# Altium schematic symbol library CAPACITOR_ELEC_SMD.SchLib: 1 symbol
Pins are listed as number, name and electrical type; pins without a type are passive.

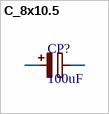
[diagram p0: symbol C_8x10.5]

## C_8x10.5
designator CP?, comment 100uF
8x10.5mm Polarized Capacitor.; JLC: Plugin; LCSC: Cxxxxxxxx
footprint CP_SMD_8x10.5 (Capacitor.)
footprint CP_SMD_10x10.5 (Capacitor.)
footprint C_Tantalum_3528
pins: 1, 2